# Altium footprint library 2020-01-10_06-31-31.PcbLib: 1 footprints
Each footprint in its own frame and in the unit in brackets; x right, y up, seen from the top. Pads: shape width x height; smd on the part's side, far side on the other; paste and mask are expansions set on the pad; w line width, h text height; cw(c..) or ccw(c..) is an arc to the next point about the centre after c.
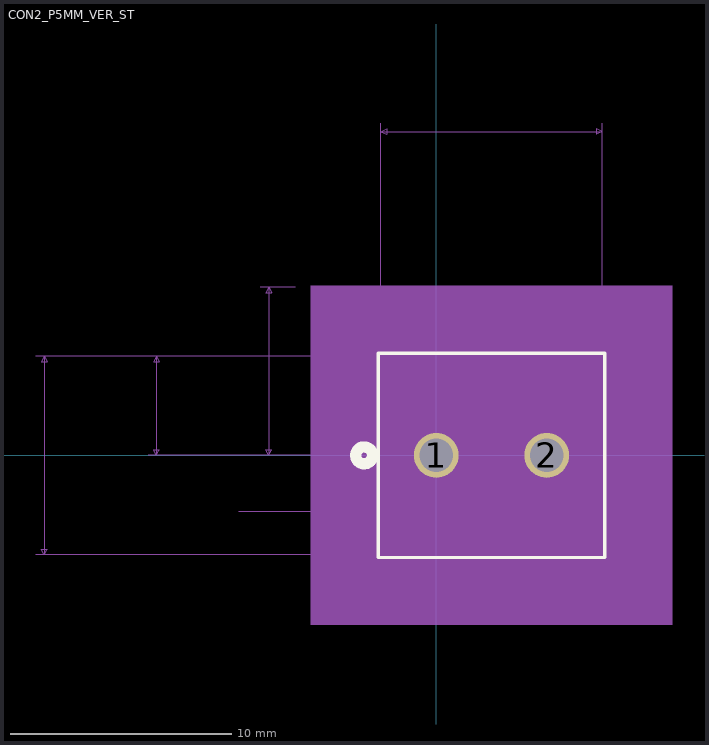
[diagram p0: the footprint, top view; thin cyan lines are the x and y axes]

## CON2_P5MM_VER_ST [mil]
pads (2):
  round 80 hole 60: 1(0,0) 2(196.85,0)
Top Overlay:
  circle w20: c-128.57,0 r15
  lines w6: -103.57,-182 300.43,-182 300.43,182 -103.57,182 -103.57,-182
Bottom Overlay:
  circle w20: c-128.57,0 r15
Mechanical 5:
  region: -223.57,302 420.43,302 420.43,-302 -223.57,-302
Mechanical 7:
  lines w1: -713.57,-177 -98.57,-177 ; -713.57,177 -98.57,177 ; -513.57,0 98.43,0 ; -513.57,177 -98.57,177 ; -351.57,-100 -213.57,-100 ; -313.57,0 98.43,0 ; -313.57,300 -251.57,300 ; -213.57,0 98.43,0 ; -198.57,-150 -198.57,-100 ; -198.57,50 -198.57,0 ; -98.57,592 -98.57,177 ; 0,0 0,292 ; 196.85,-196.85 410.43,-196.85 ; 196.85,292 196.85,0 410.43,0 ; 295.43,177 295.43,592 ; -698.57,-177 -698.57,177 ; -698.57,-177 -703.57,-167 -693.57,-167 -698.57,-177 ; -698.57,177 -703.57,167 -693.57,167 -698.57,177 ; -498.57,0 -498.57,177 ; -498.57,0 -503.57,10 -493.57,10 -498.57,0 ; -498.57,177 -503.57,167 -493.57,167 -498.57,177 ; -298.57,0 -298.57,300 ; -298.57,0 -303.57,10 -293.57,10 -298.57,0 ; -298.57,300 -303.57,290 -293.57,290 -298.57,300 ; -198.57,-100 -203.57,-110 -193.57,-110 -198.57,-100 ; -198.57,0 -203.57,10 -193.57,10 -198.57,0 ; -98.57,577 295.43,577 ; -98.57,577 -88.57,582 -88.57,572 -98.57,577 ; 0,277 196.85,277 ; 0,277 10,282 10,272 0,277 ; 196.85,277 186.85,282 186.85,272 196.85,277 ; 295.43,577 285.43,582 285.43,572 295.43,577 ; 395.43,-196.85 395.43,0 ; 395.43,-196.85 390.43,-186.85 400.43,-186.85 395.43,-196.85 ; 395.43,0 390.43,-10 400.43,-10 395.43,0
  text "Default Padstyle: OX80Y80D60P" at -264.07,-327 h50
  text "1st Mtg Padstyle: RX80Y80D50P" at -264.07,-402 h50
  text "2nd Mtg Padstyle: EX70Y70D70P" at -264.07,-477 h50
  text "3rd Mtg Padstyle: EX70Y70D70P" at -264.07,-552 h50
  text "Left Mtg Padstyle: EX60Y60D30P" at -276.57,-627 h50
  text "Right Mtg Padstyle: EX60Y60D30P" at -289.07,-702 h50
  text "Alt Padstyle 1: OX60Y90D30P" at -239.07,-777 h50
  text "Alt Padstyle 2: OX90Y60D30P" at -239.07,-852 h50
  text "0.1968504in/5mm" at 4.68,297 h25
  text "0.394in/10.008mm" at -1.57,597 h25
  text "0.197in/5mm" at 415.43,-12.5 h25
  text "0in/0mm" at -306.07,-62.5 h25
  text "0.3in/7.62mm" at -468.57,137.5 h25
  text "0.177in/4.496mm" at -706.07,76 h25
  text "0.354in/8.992mm" at -906.07,-12.5 h25
Mechanical 13:
  circle w20: c0,75 r15
  lines w1: -98.57,-177 295.43,-177 295.43,177 -98.57,177 -98.57,-177
Mechanical 15:
  region: 305.43,187 -108.57,187 -108.57,-187 305.43,-187
  lines w6: -108.57,-187 -108.57,187 305.43,187 305.43,-187 -108.57,-187
3D body: height 10, standoff 0, extent 0,0 10,10